# EAGLE library part LA3361 (library ic)
PLL FM multiplex stereo demodulator http://www.alphacron.de/download/hardware/LA3361.pdf
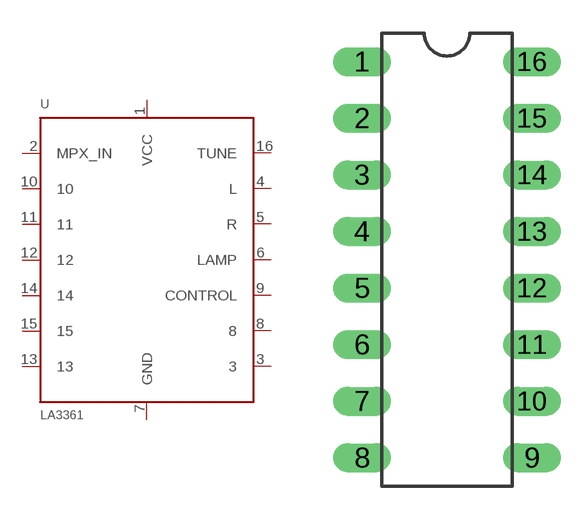
[diagram p24: symbol with the pads of DIL16; footprint DIL16]

Designator prefix -

## LA3361  [DIL16]
1  VCC
2  MPX_IN
3  3
4  L
5  R
6  LAMP
7  GND
8  8
9  CONTROL
10  10
11  11
12  12
13  13
14  14
15  15
16  TUNE

## Footprint DIL16 (pad centres in mm)
drill 0.8 long: 1 -3.81,8.89; 2 -3.81,6.35; 3 -3.81,3.81; 4 -3.81,1.27; 5 -3.81,-1.27; 6 -3.81,-3.81; 7 -3.81,-6.35; 8 -3.81,-8.89; 9 3.81,-8.89; 10 3.81,-6.35; 11 3.81,-3.81; 12 3.81,-1.27; 13 3.81,1.27; 14 3.81,3.81; 15 3.81,6.35; 16 3.81,8.89